# Altium schematic symbol library WM8960CGEFL_V.SchLib: 1 symbol
Pins are listed as number, name and electrical type; pins without a type are passive.

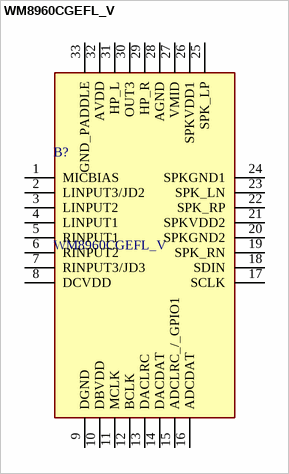
[diagram p0: symbol WM8960CGEFL_V]

## WM8960CGEFL_V
designator B?
Interface - CODECs Stereo CODEC with 1W DRIVER; Manufacturer_Name: Cirrus Logic; Manufacturer_Part_Number: WM8960CGEFL/V; Geometry.Height: 1mm; Mouser Part Number: 238-WM8960CGEFL/V; Mouser Price/Stock: https://www.mouser.co.uk/ProductDetail/Cirrus-Logic/WM8960CGEFL-V?qs=G8wrXCBxhFteielmzwPrEw%3D%3D; Arrow Part Number: *; Arrow Price/Stock: *; Datasheet Link: https://componentsearchengine.com/Datasheets/1/WM8960CGEFL_V.pdf
footprint QFN50P500X500X100-33N
pins: 1 MICBIAS, 2 LINPUT3/JD2, 3 LINPUT2, 4 LINPUT1, 5 RINPUT1, 6 RINPUT2, 7 RINPUT3/JD3, 8 DCVDD, 9 DGND, 10 DBVDD, 11 MCLK, 12 BCLK, 13 DACLRC, 14 DACDAT, 15 ADCLRC_/_GPIO1, 16 ADCDAT, 17 SCLK, 18 SDIN, 19 SPK_RN, 20 SPKGND2, 21 SPKVDD2, 22 SPK_RP, 23 SPK_LN, 24 SPKGND1, 25 SPK_LP, 26 SPKVDD1, 27 VMID, 28 AGND, 29 HP_R, 30 OUT3, 31 HP_L, 32 AVDD, 33 GND_PADDLE